# EAGLE library part STM32F103C8 (library stm32)
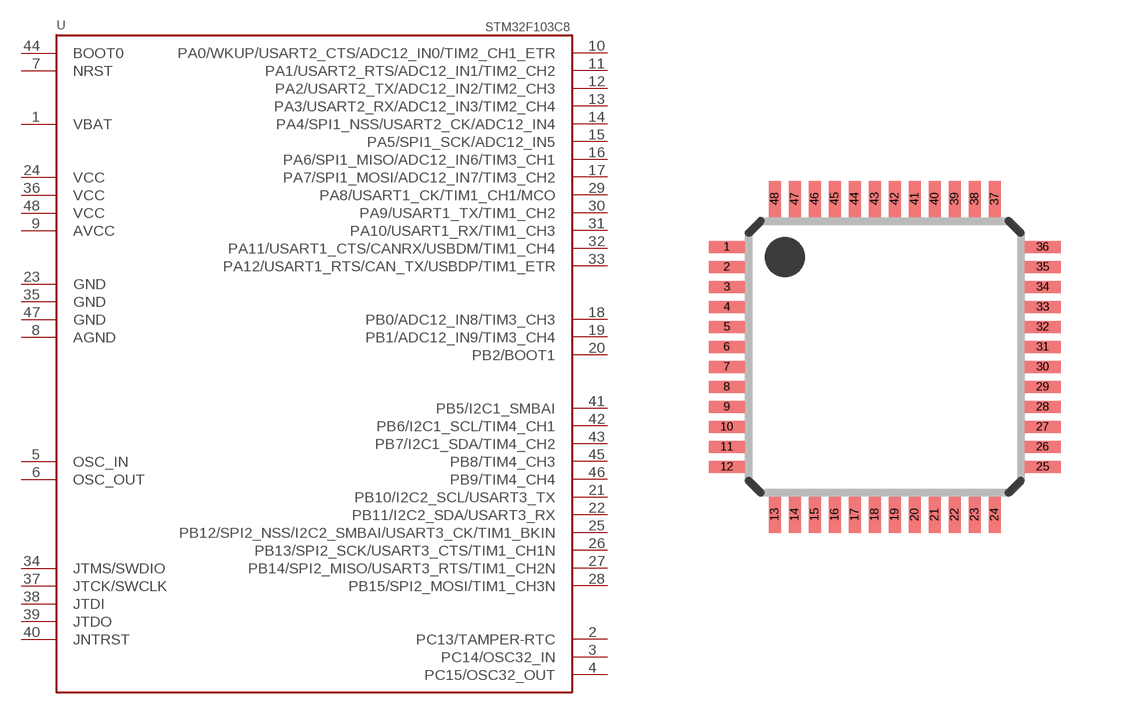
[diagram p1: symbol with the pads of LQFP48-7X7; footprint LQFP48-7X7]

Designator prefix -

## STM32F103C8  [LQFP48-7X7]
1  VBAT  pwr
2  PC13/TAMPER-RTC
3  PC14/OSC32_IN
4  PC15/OSC32_OUT
5  OSC_IN  in
6  OSC_OUT  out
7  NRST
8  AGND  pwr
9  AVCC  pwr
10  PA0/WKUP/USART2_CTS/ADC12_IN0/TIM2_CH1_ETR
11  PA1/USART2_RTS/ADC12_IN1/TIM2_CH2
12  PA2/USART2_TX/ADC12_IN2/TIM2_CH3
13  PA3/USART2_RX/ADC12_IN3/TIM2_CH4
14  PA4/SPI1_NSS/USART2_CK/ADC12_IN4
15  PA5/SPI1_SCK/ADC12_IN5
16  PA6/SPI1_MISO/ADC12_IN6/TIM3_CH1
17  PA7/SPI1_MOSI/ADC12_IN7/TIM3_CH2
18  PB0/ADC12_IN8/TIM3_CH3
19  PB1/ADC12_IN9/TIM3_CH4
20  PB2/BOOT1
21  PB10/I2C2_SCL/USART3_TX
22  PB11/I2C2_SDA/USART3_RX
23  GND  pwr
24  VCC  pwr
25  PB12/SPI2_NSS/I2C2_SMBAI/USART3_CK/TIM1_BKIN
26  PB13/SPI2_SCK/USART3_CTS/TIM1_CH1N
27  PB14/SPI2_MISO/USART3_RTS/TIM1_CH2N
28  PB15/SPI2_MOSI/TIM1_CH3N
29  PA8/USART1_CK/TIM1_CH1/MCO
30  PA9/USART1_TX/TIM1_CH2
31  PA10/USART1_RX/TIM1_CH3
32  PA11/USART1_CTS/CANRX/USBDM/TIM1_CH4
33  PA12/USART1_RTS/CAN_TX/USBDP/TIM1_ETR
34  JTMS/SWDIO
35  GND  pwr
36  VCC  pwr
37  JTCK/SWCLK
38  JTDI
39  JTDO
40  JNTRST
41  PB5/I2C1_SMBAI
42  PB6/I2C1_SCL/TIM4_CH1
43  PB7/I2C1_SDA/TIM4_CH2
44  BOOT0
45  PB8/TIM4_CH3
46  PB9/TIM4_CH4
47  GND  pwr
48  VCC  pwr

## Footprint LQFP48-7X7 (pad centres in mm)
48-pin low profile quad flat package (7 x 7) Source: Data sheet <http://www.st.com/stonline/products/literature/ds/14771/stm8s105c4.pdf>
smd 0.9 x 0.3: 1 -3.95,2.75; 2 -3.95,2.25; 3 -3.95,1.75; 4 -3.95,1.25; 5 -3.95,0.75; 6 -3.95,0.25; 7 -3.95,-0.25; 8 -3.95,-0.75; 9 -3.95,-1.25; 10 -3.95,-1.75; 11 -3.95,-2.25; 12 -3.95,-2.75; 25 3.95,-2.75; 26 3.95,-2.25; 27 3.95,-1.75; 28 3.95,-1.25; 29 3.95,-0.75; 30 3.95,-0.25; 31 3.95,0.25; 32 3.95,0.75; 33 3.95,1.25; 34 3.95,1.75; 35 3.95,2.25; 36 3.95,2.75
smd 0.3 x 0.9: 13 -2.75,-3.95; 14 -2.25,-3.95; 15 -1.75,-3.95; 16 -1.25,-3.95; 17 -0.75,-3.95; 18 -0.25,-3.95; 19 0.25,-3.95; 20 0.75,-3.95; 21 1.25,-3.95; 22 1.75,-3.95; 23 2.25,-3.95; 24 2.75,-3.95; 37 2.75,3.95; 38 2.25,3.95; 39 1.75,3.95; 40 1.25,3.95; 41 0.75,3.95; 42 0.25,3.95; 43 -0.25,3.95; 44 -0.75,3.95; 45 -1.25,3.95; 46 -1.75,3.95; 47 -2.25,3.95; 48 -2.75,3.95